# Altium footprint library F103_MINI.PcbLib: 34 footprints (part 1 of 3)
Each footprint in its own frame and in the unit in brackets; x right, y up, seen from the top. Pads: shape width x height; smd on the part's side, far side on the other; paste and mask are expansions set on the pad; w line width, h text height; cw(c..) or ccw(c..) is an arc to the next point about the centre after c.
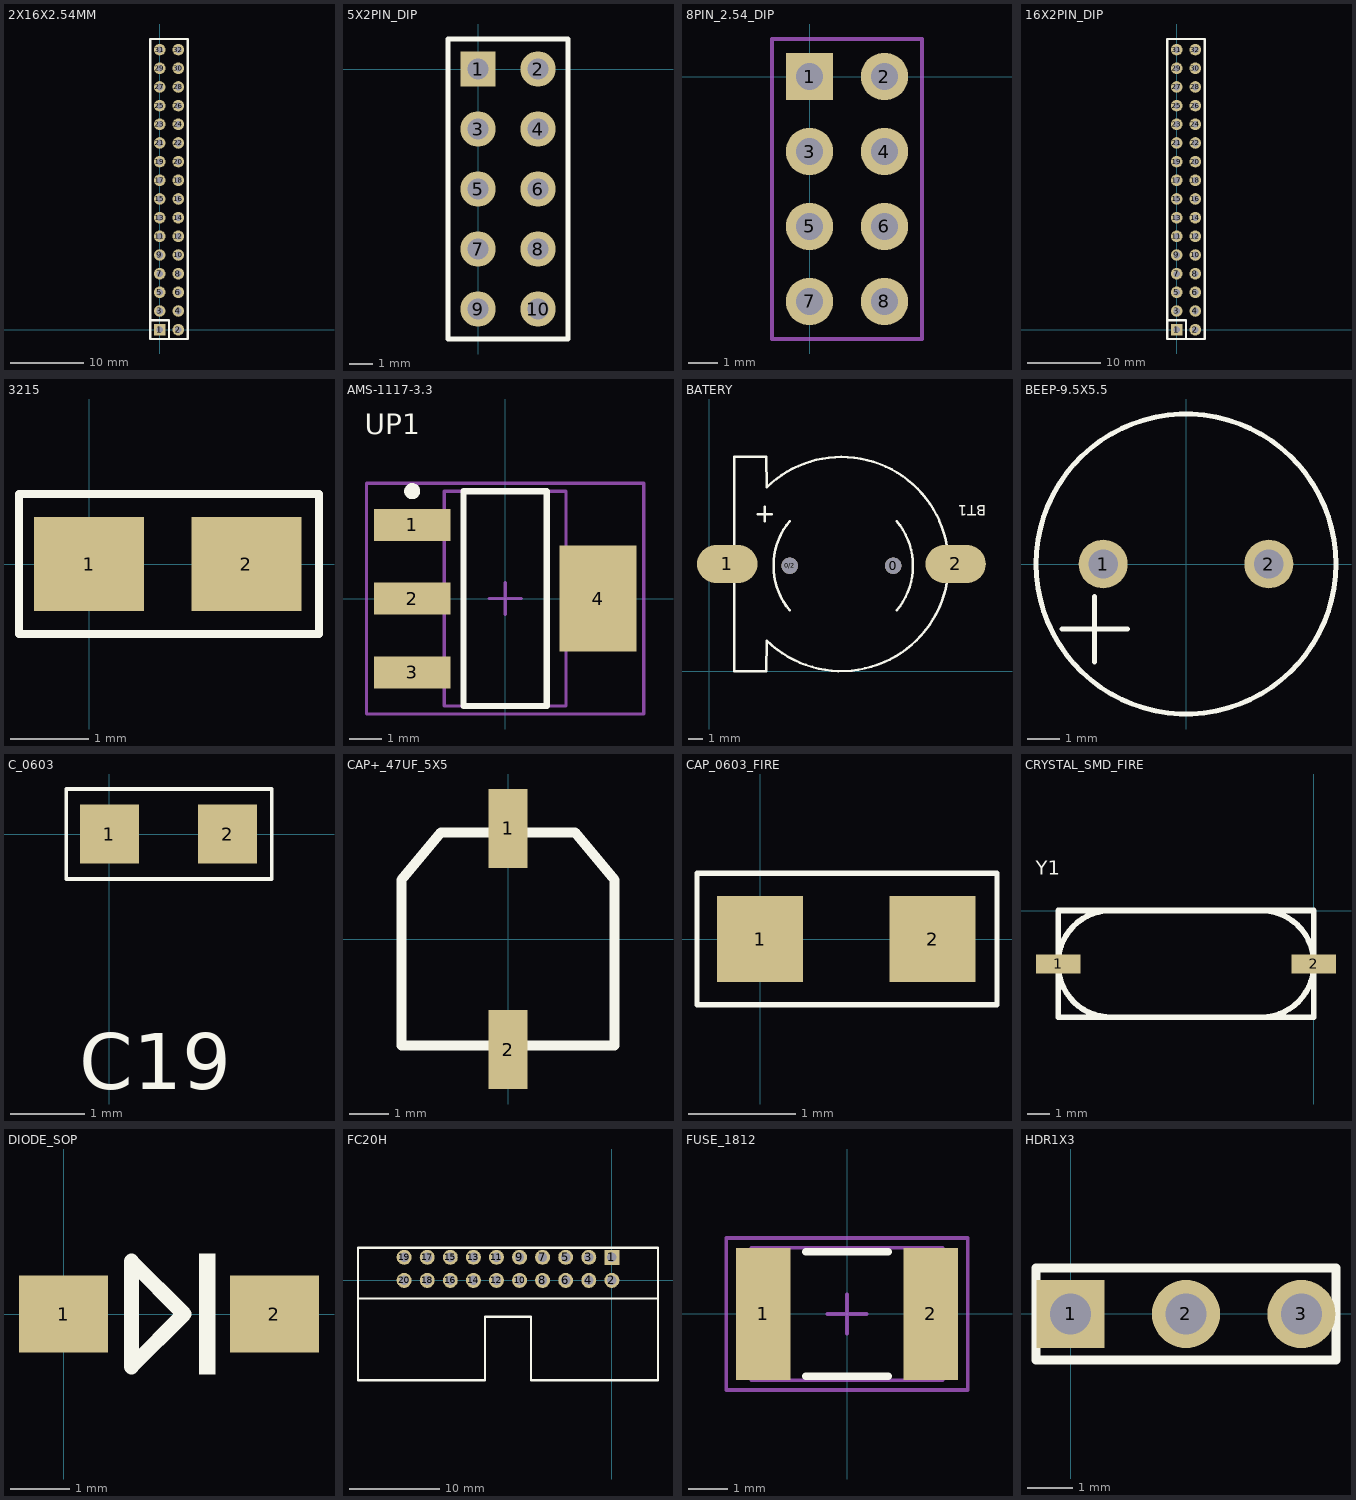
[diagram p0: the footprints below, top view; thin cyan lines are the x and y axes]

## 2X16X2.54MM [mil]
pads (32):
  rrect0% 62x62 hole 35.43: 1(0,0)
  round 62 hole 35.43: 2(100,0) 3(0,100) 4(100,100) 5(0,200) 6(100,200) 7(0,300) 8(100,300) 9(0,400) 10(100,400) 11(0,500) 12(100,500) 13(0,600) 14(100,600) 15(0,700) 16(100,700) 17(0,800) 18(100,800) 19(0,900) 20(100,900) 21(0,1000) 22(100,1000) 23(0,1100) 24(100,1100) 25(0,1200) 26(100,1200) 27(0,1300) 28(100,1300) 29(0,1400) 30(100,1400) 31(0,1500) 32(100,1500)
Top Overlay:
  lines w12: -50,50 50,50 50,-50 ; -50,-50 150,-50 150,1555 150,1557 -50,1557 -50,1555 -50,-50

## 5X2PIN_DIP [mm]
pads (10):
  rect 1.5x1.5 hole 0.9: 1(0,0)
  round 1.5 hole 0.9: 2(2.54,0) 3(0,-2.54) 4(2.54,-2.54) 5(0,-5.08) 6(2.54,-5.08) 7(0,-7.62) 8(2.54,-7.62) 9(0,-10.16) 10(2.54,-10.16)
Top Overlay:
  lines w0.2: -1.27,-11.43 -1.27,1.27 3.81,1.27 3.81,-11.43 -1.27,-11.43

## 8PIN_2.54_DIP [mm]
pads (8):
  rect 1.6x1.6 hole 0.9: 1(0,0)
  round 1.6 hole 0.9: 2(2.54,0) 3(0,-2.54) 4(2.54,-2.54) 5(0,-5.08) 6(2.54,-5.08) 7(0,-7.62) 8(2.54,-7.62)
Mechanical 1:
  lines w0.15: -1.27,-8.89 3.81,-8.89 3.81,1.27 -1.27,1.27 -1.27,-8.89

## 16X2PIN_DIP [mil]
pads (32):
  rrect0% 62x62 hole 35.43: 1(0,0)
  round 62 hole 35.43: 2(100,0) 3(0,100) 4(100,100) 5(0,200) 6(100,200) 7(0,300) 8(100,300) 9(0,400) 10(100,400) 11(0,500) 12(100,500) 13(0,600) 14(100,600) 15(0,700) 16(100,700) 17(0,800) 18(100,800) 19(0,900) 20(100,900) 21(0,1000) 22(100,1000) 23(0,1100) 24(100,1100) 25(0,1200) 26(100,1200) 27(0,1300) 28(100,1300) 29(0,1400) 30(100,1400) 31(0,1500) 32(100,1500)
Top Overlay:
  lines w12: -50,50 50,50 50,-50 ; -50,-50 -50,1555 -50,1557 150,1557 150,1555 150,-50 -50,-50
Bottom Overlay:
  drawing of 256 lines, arcs and shapes, not listed

## 3215 [mm]
pads (2):
  rect 1.4x1.2 smd: 1(0,0) 2(2,0)
Top Overlay:
  lines w0.1: -0.889,-0.889 2.921,-0.889 2.921,0.889 -0.889,0.889 ; -0.889,0.889 -0.889,-0.855 -0.889,0.889

## AMS-1117-3.3 [mm]
height 1.6
pads (4):
  rect 2.4x1 smd: 1(-2.9,2.3) 2(-2.9,0) 3(-2.9,-2.3)
  rect 2.4x3.3 smd: 4(2.9,0)
Top Overlay:
  circle w0.25: c-2.9,3.35 r0.125
  lines w0.2: -1.3,-3.35 1.3,-3.35 1.3,3.35 -1.3,3.35 -1.3,-3.35
  text "UP1" at -4.375,5.123 h0.64
Mechanical 16:
  lines w0.1: -0.5,0 0.5,0 ; 0,-0.5 0,0.5 ; -4.325,-3.6 4.325,-3.6 4.325,3.6 -4.325,3.6 -4.325,-3.6 ; -1.9,-3.35 1.9,-3.35 1.9,3.35 -1.9,3.35 -1.9,-3.35

## BATERY [mil]
pads (4):
  round 46 hole 46: 0(515,295) 0/2(225,295)
  oval 169.29x106.3 smd: 1(50,300) 2(690,300)
Top Overlay:
  lines w7: 135,440 175,440 ; 155,420 155,460 ; 160.38,85.39 160,0 70,0 70,300 70,600 160,600 160.38,514.61 ; 160.48,85.29 ccw(c370,300) 668.19,267.08 ; 160.48,514.71 cw(c370,300) 370,600 cw(c370,300) 668.19,332.92 ; 224.77,170.28 cw(c375,295) 224.99,419.99 ; 525.01,170.01 ccw(c375,295) 525.01,419.99
  text "BT1" at 776,464 h30

## BEEP-9.5X5.5 [mm]
pads (2):
  round 1.5 hole 0.9: 1(-2.54,0) 2(2.54,0)
Top Overlay:
  circle w0.152: c0,0 r4.6
  lines w0.152: -3.8,-2 -1.8,-2 ; -2.8,-3 -2.8,-1

## C_0603 [mm]
pads (2):
  rect 0.8x0.8 smd: 1(0,0) 2(1.6,0)
Top Overlay:
  lines w0.051: -0.584,-0.61 2.197,-0.61 2.197,0.61 -0.584,0.61 -0.584,-0.61
  text "C19" at -0.406,-3.454 h0.76

## CAP+_47UF_5X5 [mm]
pads (2):
  rect 1x2 smd: 1(0,2.8) 2(0,-2.8)
Top Overlay:
  lines w0.254: -2.7,-2.7 2.7,-2.7 2.7,1.5 1.7,2.7 -1.7,2.7 -2.7,1.5 -2.7,-2.7

## CAP_0603_FIRE [mm]
pads (2):
  rect 0.8x0.8 smd: 1(0,0) 2(1.6,0)
Top Overlay:
  lines w0.051: -0.584,-0.61 2.197,-0.61 2.197,0.61 -0.584,0.61 -0.584,-0.61

## CRYSTAL_SMD_FIRE [mm]
pads (2):
  rect 2x0.85 smd: 1(-11.5,-2.4) 2(0,-2.4)
Top Overlay:
  lines w0.254: -11.5,-2.469 -11.5,-2.4 ; -11.5,-2.468 ccw(c-9.135,-2.435) -9.102,-4.8 ; -11.5,-2.398 cw(c-9.135,-2.365) -9.168,0 ; -2.398,0 cw(c-2.365,-2.365) 0,-2.332 ; -2.332,-4.8 ccw(c-2.365,-2.435) 0,-2.402 ; 0,-2.4 0,-2.331 ; -11.5,-4.8 -11.5,0 0,0 0,-4.8 -11.5,-4.8
  text "Y1" at -12.5,1.6 h0.64

## DIODE_SOP [mm]
pads (2):
  rect 1.5x1.3 smd: 1(0,0) 2(3.556,0)
Top Overlay:
  region: 2.286,-1.016 2.559,-1.016 2.559,1.016 2.286,1.016
  lines w0.254: 1.143,-0.889 2.032,0 1.143,0.889 1.143,-0.889

## FC20H [mil]
pads (20):
  rect 65x65 hole 40: 1(0,100)
  round 65 hole 40: 2(0,0) 3(-100,100) 4(-100,0) 5(-200,100) 6(-200,0) 7(-300,100) 8(-300,0) 9(-400,100) 10(-400,0) 11(-500,100) 12(-500,0) 13(-600,100) 14(-600,0) 15(-700,100) 16(-700,0) 17(-800,100) 18(-800,0) 19(-900,100) 20(-900,0)
Top Overlay:
  lines w10: -1100,-78.74 -1100,-433.07 -550,-433.07 -550,-157.48 -350,-157.48 -350,-433.07 200,-433.07 200,-78.74 ; -1100,-78.74 -1100,141.26 200,141.26 200,-78.74 ; -1100,-78.74 200,-78.74

## FUSE_1812 [mm]
height 0.34
pads (2):
  rect 1.4x3.4 smd: 1(-2.15,0) 2(2.15,0)
Top Overlay:
  lines w0.2: -1.05,-1.6 1.05,-1.6 ; -1.05,1.6 1.05,1.6
Mechanical 16:
  lines w0.1: -0.5,0 0.5,0 ; 0,-0.5 0,0.5 ; -3.1,-1.95 3.1,-1.95 3.1,1.95 -3.1,1.95 -3.1,-1.95 ; -2.45,-1.7 2.45,-1.7 2.45,1.7 -2.45,1.7 -2.45,-1.7

## HDR1X3 [mm]
height 1.2
pads (3):
  rect 1.5x1.5 hole 0.9: 1(0,0)
  round 1.5 hole 0.9: 2(2.54,0) 3(5.08,0)
Top Overlay:
  lines w0.2: -0.762,-1.016 5.842,-1.016 5.842,1.016 -0.762,1.016 -0.762,-1.016